# EAGLE library part TLV3502 (library yapo)
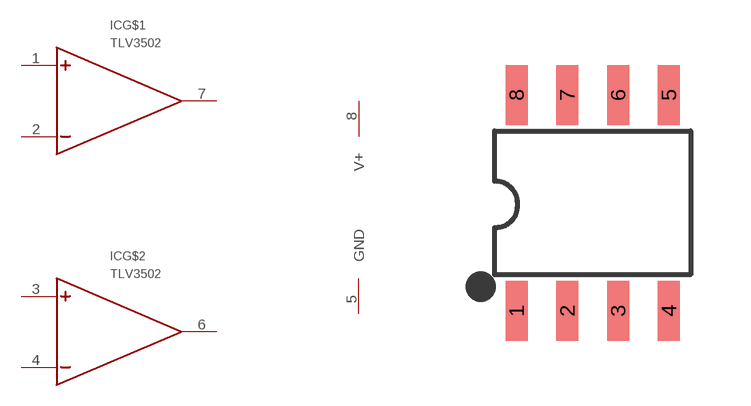
[diagram p79: symbol with the pads of SOIC8; footprint SOIC8]

Designator prefix IC; gates G$1=OP_AMP G$2=OP_AMP G$3=OP_AMP_SUPPLY

## TLV3502  [SOIC8]
1  G$1:+
2  G$1:-
3  G$2:+
4  G$2:-
5  G$3:GND
6  G$2:OUT
7  G$1:OUT
8  G$3:V+

## Footprint SOIC8 (pad centres in mm)
smd 0.55 x 1.5: 1 -1.905,-2.7; 2 -0.635,-2.7; 3 0.635,-2.7; 4 1.905,-2.7; 5 1.905,2.7; 6 0.635,2.7; 7 -0.635,2.7; 8 -1.905,2.7